# EAGLE library part 74LVC1T45 (library Diodes)
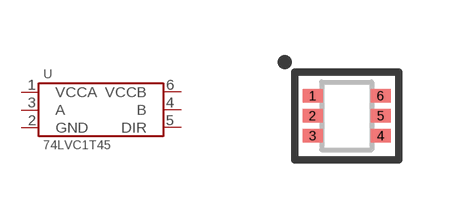
[diagram p2: symbol with the pads of SOT-563; footprint SOT-563]

Designator prefix U

## 74LVC1T45  [SOT-563]
1  VCCA
2  GND
3  A
4  B
5  DIR
6  VCCB

## Footprint SOT-563 (pad centres in mm)
smd 0.5 x 0.34: 1 -0.85,0.5; 2 -0.85,0; 3 -0.85,-0.5; 4 0.85,-0.5; 5 0.85,0; 6 0.85,0.5